# Altium schematic symbol library PPTC061LFBN-RC.SchLib: 1 symbol
Pins are listed as number, name and electrical type; pins without a type are passive.

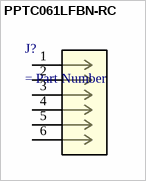
[diagram p0: symbol PPTC061LFBN-RC]

## PPTC061LFBN-RC
designator J?
= Desscription; Mfr_Name: Sullins; Manufacturer_Part_Number: PPTC061LFBN-RC; Copyright: Copyright (C) 2021 Ultra Librarian. All rights reserved.; Digi-Key_Part_Number_1: S7004-ND; RefDes: RefDes; Type: DEV
footprint CONN6_061LFBN-RC_SUL
pins: 1, 2, 3, 4, 5, 6